# Altium schematic symbol library AdaptWing.SchLib: 23 symbols
Pins are listed as number, name and electrical type; pins without a type are passive.

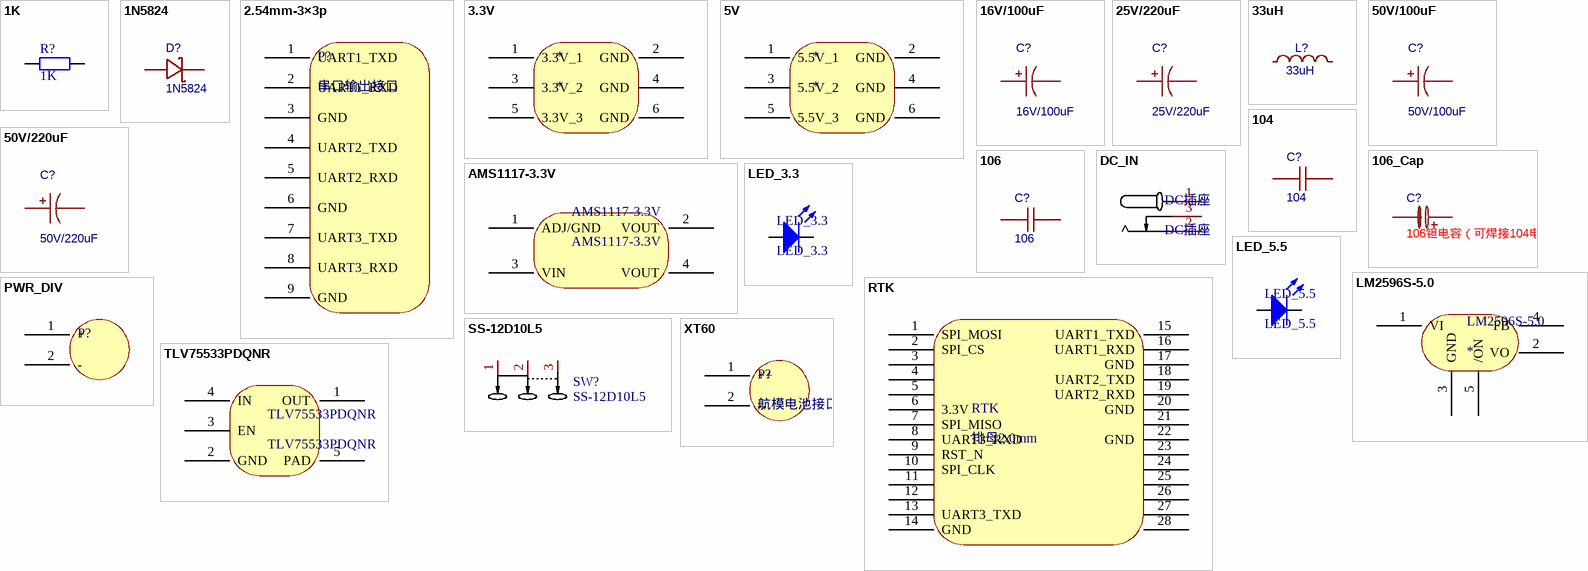
[diagram p0: symbols 1K to XT60]

## 1K
designator R?
Resistor; Published: 8-Jun-2000; LatestRevisionDate: 17-Jul-2002; LatestRevisionNote: Re-released for DXP Platform.; PackageReference: AXIAL-0.4; Publisher: Altium Limited; PackageDescription: Axial Device, Thru-Hole; 2 Leads; 0.4 in Pin Spacing; Value: 1K
footprint 0603C (1.6mmx0.8mm)
pins: 1, 2

## 1N5824
designator D?
Contributor: xuncikulv; BOM_Supplier: lynxfoor; spicePre: D; spiceSymbolName: 1N5824贴片
footprint 1N5824
pins: 1 C, 2 A

## 2.54mm-3×3p
designator P?, comment 串口输出接口
footprint 2.54mm-3×3p
pins: 1 UART1_TXD, 2 UART1_RXD, 3 GND, 4 UART2_TXD, 5 UART2_RXD, 6 GND, 7 UART3_TXD, 8 UART3_RXD, 9 GND

## 3.3V
designator *
footprint HDR-TH_6P-P2.54-V-M-R2-C3-S2.54-1
pins: 1 3.3V_1, 2 GND, 3 3.3V_2, 4 GND, 5 3.3V_3, 6 GND

## 5V
designator *
footprint HDR-TH_6P-P2.54-V-M-R2-C3-S2.54-1
pins: 1 5.5V_1, 2 GND, 3 5.5V_2, 4 GND, 5 5.5V_3, 6 GND

## 16V/100uF
designator C?
电解电容; BOM_Manufacturer: Yunxing; BOM_Manufacturer Part: ECG1KM470F14OTBO; nameAlias: Capacitance; Contributor: LCSC; BOM_Supplier: LCSC; BOM_Supplier Part: C525429; spicePre: C; spiceSymbolName: ECG1KM470F14OTBO COPY
footprint CAP-SMD_BD6.3-L6.6-W6.6-FD
pins: 1, 2

## 25V/220uF
designator C?
BOM_Manufacturer: Yunxing; BOM_Manufacturer Part: ECG1KM470F14OTBO; nameAlias: Capacitance; Contributor: LCSC; BOM_Supplier: LCSC; BOM_Supplier Part: C525429; spicePre: C; spiceSymbolName: ECG1KM470F14OTBO COPY
footprint CAP-SMD_BD6.3-L6.6-W6.6-LS7.4-FD
pins: 1, 2

## 33uH
designator L?
BOM_Manufacturer: MAZO; BOM_Manufacturer Part: MPCA-0630-1R0-M; nameAlias: Inductance; Contributor: liuliubilc; BOM_Supplier: LCSC; BOM_Supplier Part: C268399; BOM_JLCPCB Part Class: Extended Part; spicePre: L; spiceSymbolName: 0630-1R0电感
footprint 1040电感
pins: 1, 2

## 50V/100uF
designator C?
BOM_Manufacturer: Yunxing; BOM_Manufacturer Part: ECG1KM470F14OTBO; nameAlias: Capacitance; Contributor: LCSC; BOM_Supplier: LCSC; BOM_Supplier Part: C525429; spicePre: C; spiceSymbolName: ECG1KM470F14OTBO COPY
footprint CAP-SMD_BD8.0-L8.3-W8.3-FD
pins: 1, 2

## 50V/220uF
designator C?
BOM_Manufacturer: Yunxing; BOM_Manufacturer Part: ECG1KM470F14OTBO; nameAlias: Capacitance; Contributor: LCSC; BOM_Supplier: LCSC; BOM_Supplier Part: C525429; spicePre: C; spiceSymbolName: ECG1KM470F14OTBO COPY
footprint CAP-SMD_BD8.0-L8.3-W8.3-FD
pins: 1, 2

## 104
designator C?
nameAlias: Value(F); Contributor: LCEDA_Lib; spicePre: C; spiceSymbolName: C_0603_US
footprint C0603
pins: 1, 2

## 106
designator C?
nameAlias: Value(F); Contributor: LCEDA_Lib; spicePre: C; spiceSymbolName: C_0603_US
footprint C0603
pins: 1, 2

## 106_Cap
designator C?, comment 106钽电容（可焊接104电容）
nameAlias: Capacitance; Contributor: HalfSweet; spicePre: C; spiceSymbolName: 1206钽电容
footprint CAP-SMD_L3.2-W1.6-R-RD
pins: 1, 2

## AMS1117-3.3V
designator AMS1117-3.3V
3.3V稳压芯片
footprint SOT-223-4_L6.5-W3.5-P2.30-LS7.0-BR
pins: 1 ADJ/GND, 2 VOUT, 3 VIN, 4 VOUT

## DC_IN
designator DC插座, comment DC插座
footprint DC-IN-TH_DC-044-BXXX
pins: 1 pwr, 2 GND, 3 GND

## LED_3.3
designator LED_3.3
LED_3.3，使用绿色LED
footprint 0603_LED
pins: 1 A, 2 K

## LED_5.5
designator LED_5.5
LED_5.5，使用蓝色LED
footprint 0603_LED
pins: 1 A, 2 K

## LM2596S-5.0
designator LM2596S-5.0
5V稳压
footprint TO263-5A
pins: 1 VI, 2 VO, 3 GND, 4 FB, 5 /ON

## PWR_DIV
designator P?, comment 分电焊盘  (value not drawn)
footprint 分电焊盘
pins: 1 +, 2 -

## RTK
designator RTK, comment 排母2.0mm
footprint 2mm-28pins
pins: 1 SPI_MOSI, 2 SPI_CS, 3, 4, 5, 6 3.3V, 7 SPI_MISO, 8 UART3_RXD, 9 RST_N, 10 SPI_CLK, 11, 12, 13 UART3_TXD, 14 GND, 15 UART1_TXD, 16 UART1_RXD, 17 GND, 18 UART2_TXD, 19 UART2_RXD, 20 GND, 21, 22 GND, 23, 24, 25, 26, 27, 28

## SS-12D10L5
designator SW?  Name: SS-12D10L5
两档滑动开关; Manufacturer: XKB Connectivity(中国星坤); Add into BOM: yes; Current Rating (DC): 3A; Voltage Rating (DC): 125V; Circuit: 单刀双掷; Mechanical Life: 1万次; Actuator Color: 黑色; Actuator Style: 矩形柱状; Pin Style: PC引脚; Switch Length: 13mm; Switch Width: 6.8mm; Switch Height: 6.4mm; Symbol: SS-12D10L5; Device: SS-12D10L5; LCSC Part Name: 柄长5mm 直插双档 滑动开关 大电流; Supplier Part: C319012; Manufacturer Part: SS-12D10L5; Supplier Footprint: 插件; JLCPCB Part Class: 扩展库; Datasheet: https://atta.szlcsc.com/upload/public/pdf/source/20211009/D6412F37AABE6F9459A6EE7FA4DAEADB.pdf; Supplier: LCSC; Convert to PCB: yes; Current Rating (AC): 3A; Voltage Rating (AC): 125V; Mounting Style: 直插; Operating Temperature: -40℃~+85℃
footprint SW-TH_SS-12D10L5
pins: 1, 2, 3

## TLV75533PDQNR
designator TLV75533PDQNR
3.3V稳压芯片
pins: 1 OUT, 2 GND, 3 EN, 4 IN, 5 PAD

## XT60
designator P?, comment 航模电池接口
footprint 分电焊盘
pins: 1 ++, 2 --